# Altium schematic symbol library N52832.SchLib: 1 symbol
Pins are listed as number, name and electrical type; pins without a type are passive.

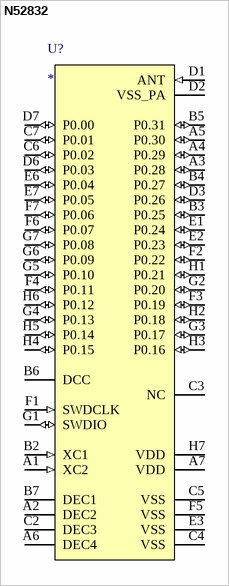
[diagram p0: symbol N52832]

## N52832
designator U?
pins: A1 XC2 (in), A2 DEC2 (power), A3 P0.28 (io), A4 P0.29 (io), A5 P0.30 (io), A6 DEC4 (power), A7 VDD (power), B2 XC1 (in), B3 P0.25 (io), B4 P0.27 (io), B5 P0.31 (io), B6 DCC (power), B7 DEC1 (power), C2 DEC3 (power), C3 NC, C4 VSS (power), C5 VSS (power), C6 P0.02 (io), C7 P0.01 (io), D1 ANT (in), D2 VSS_PA (power), D3 P0.26 (io), D6 P0.03 (io), D7 P0.00 (io), E1 P0.24 (io), E2 P0.23 (io), E3 VSS (power), E6 P0.04 (io), E7 P0.05 (io), F1 SWDCLK (in), F2 P0.22 (io), F3 P0.19 (io), F4 P0.11 (io), F5 VSS (power), F6 P0.07 (io), F7 P0.06 (io), G1 SWDIO (io), G2 P0.20 (io), G3 P0.17 (io), G4 P0.13 (io), G5 P0.10 (io), G6 P0.09 (io), G7 P0.08 (io), H1 P0.21 (io), H2 P0.18 (io), H3 P0.16 (io), H4 P0.15 (io), H5 P0.14 (io), H6 P0.12 (io), H7 VDD (power)